# Altium schematic symbol library CSD17301.SchLib: 1 symbol
Pins are listed as number, name and electrical type; pins without a type are passive.

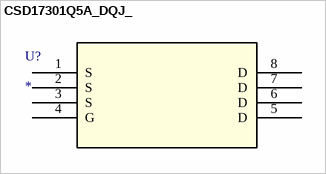
[diagram p0: symbol CSD17301Q5A_DQJ_]

## CSD17301Q5A_DQJ_
designator U?
30V, N-Channel NexFET™ Power MOSFETs; Manufacturer: Texas Instruments; GENERIC_PART_NUMBER: CSD17301Q5A; INDUSTRY_STD_PKG_TYPE: SON; FAMILY_NAME: N-Channel MOSFET Transistors; PIN_COUNT: 8; PACKAGE_DESIGNATOR: DQJ; Datasheet URL: http://www.ti.com/lit/gpn/CSD17301Q5A; RefDes: RefDes; Type: DEV; Value: Value
footprint DQJ8
pins: 1 S, 2 S, 3 S, 4 G, 5 D, 6 D, 7 D, 8 D